# Altium footprint library PCB1.PcbLib: 5 footprints
Each footprint in its own frame and in the unit in brackets; x right, y up, seen from the top. Pads: shape width x height; smd on the part's side, far side on the other; paste and mask are expansions set on the pad; w line width, h text height; cw(c..) or ccw(c..) is an arc to the next point about the centre after c.
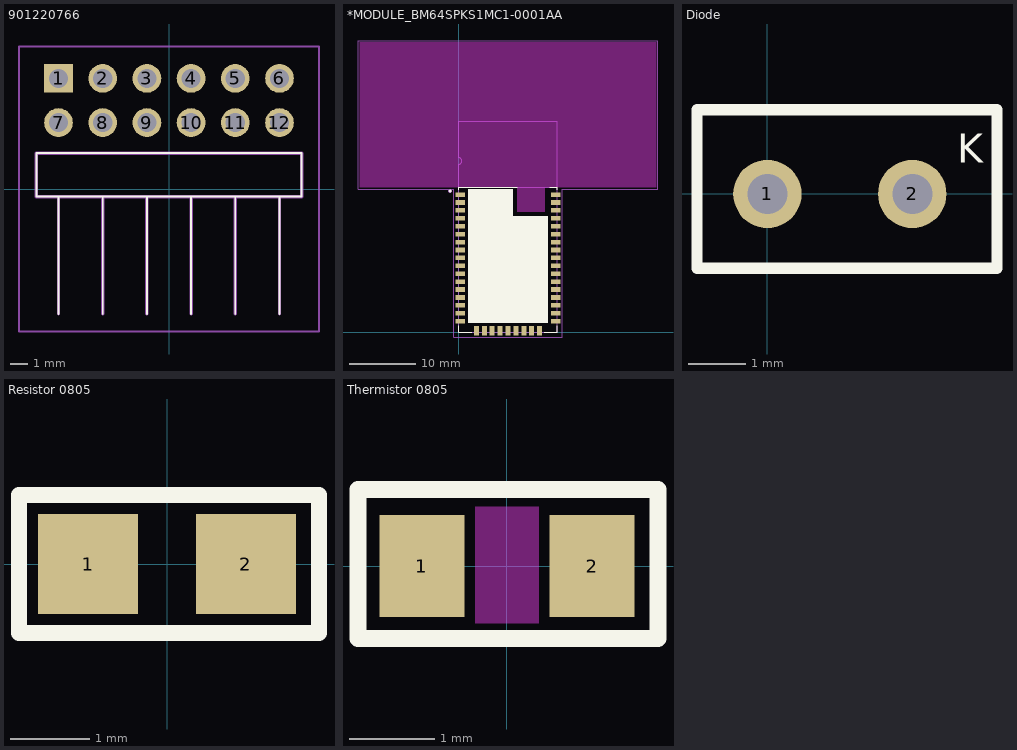
[diagram p0: the footprints below, top view; thin cyan lines are the x and y axes]

## 901220766 [mm]
pads (12):
  rect 1.65x1.65 hole 1.1: 1(-6.35,6.357)
  round 1.65 hole 1.1: 2(-3.81,6.357) 3(-1.27,6.357) 4(1.27,6.357) 5(3.81,6.357) 7(-6.35,3.817) 8(-3.81,3.817) 9(-1.27,3.817) 10(1.27,3.817) 11(3.81,3.817) 12(6.35,3.817)
  round 1.65 / inner round 0 / far side round 1.65 hole 1.1: 6(6.35,6.357)
Top Overlay:
  lines w0.1: -6.35,-7.182 -6.35,-0.433 ; -3.81,-7.182 -3.81,-0.433 ; -1.27,-7.182 -1.27,-0.433 ; 1.27,-7.182 1.27,-0.433 ; 3.81,-7.182 3.81,-0.433 ; 6.35,-7.182 6.35,-0.433 ; -7.62,-0.433 -7.62,2.067 7.62,2.067 7.62,-0.433 -7.62,-0.433
Mechanical 13:
  lines w0.2: -6.35,-7.182 -6.35,-0.433 ; -3.81,-7.182 -3.81,-0.433 ; -1.27,-7.182 -1.27,-0.433 ; 1.27,-7.182 1.27,-0.433 ; 3.81,-7.182 3.81,-0.433 ; 6.35,-7.182 6.35,-0.433 ; -7.62,-0.433 -7.62,2.067 7.62,2.067 7.62,-0.433 -7.62,-0.433
Mechanical 15:
  lines w0.1: -8.62,-8.182 -8.62,8.183 8.62,8.183 8.62,-8.182 -8.62,-8.182
3D body "90122-0766.stp": height 3.08, standoff -5.97, extent -7.62,-7.702 7.62,6.147

## *MODULE_BM64SPKS1MC1-0001AA [mm]
pads (43):
  rect 1.5x0.7 smd: 1(0.25,20.9) 2(0.25,19.7) 3(0.25,18.5) 4(0.25,17.3) 5(0.25,16.1) 6(0.25,14.9) 7(0.25,13.7) 8(0.25,12.5) 9(0.25,11.3) 10(0.25,10.1) 11(0.25,8.9) 12(0.25,7.7) 13(0.25,6.5) 14(0.25,5.3) 15(0.25,4.1) 16(0.25,2.9) 17(0.25,1.7) 27(14.75,1.7) 28(14.75,2.9) 29(14.75,4.1) 30(14.75,5.3) 31(14.75,6.5) 32(14.75,7.7) 33(14.75,8.9) 34(14.75,10.1) 35(14.75,11.3) 36(14.75,12.5) 37(14.75,13.7) 38(14.75,14.9) 39(14.75,16.1) 40(14.75,17.3) 41(14.75,18.5) 42(14.75,19.7) 43(14.75,20.9)
  rect 0.76x1.5 smd: 18(2.7,0.25) 19(3.9,0.25) 20(5.1,0.25) 21(6.3,0.25) 22(7.5,0.25) 23(8.7,0.25) 24(9.9,0.25) 25(11.1,0.25) 26(12.3,0.25)
Top Overlay:
  circle w0.2: c-1.275,21.45 r0.1
  rectangle: 1.397,17.526 8.255,21.717
  rectangle: 1.397,1.397 13.589,17.653
  lines w0.127: 0,1 0,0 2,0 ; 0,21.6 0,22 8.9,22 ; 13,0 15,0 15,1 ; 13.8,22 15,22 15,21.6
Keep-Out Layer:
  region: -15,44 30,44 30,22 12.827,22 12.827,18.288 8.9,18.288 8.9,22 -15,22
  region: -15,44 30,44 30,22 12.827,22 12.827,18.288 8.9,18.288 8.9,22 -15,22
  region: -15,44 30,44 30,22 13.081,22 13.081,18.288 8.9,18.288 8.9,22 -15,22
  region: -15,44 30,44 30,22 13.081,22 13.081,18.288 8.9,18.288 8.9,22 -15,22
  region: -15,44 30,44 30,22 13.081,22 13.081,18.288 8.9,18.288 8.9,22 -15,22
  region: -15,44 30,44 30,22 12.827,22 12.827,18.288 8.9,18.288 8.9,22 -15,22
  region: -15,44 30,44 30,22 13.081,22 13.081,18.288 8.9,18.288 8.9,22 -15,22
  region: -15,44 30,44 30,22 13.081,22 13.081,18.288 9.271,18.288 9.271,22 -15,22
  region: -15,44 30,44 30,22 12.827,22 12.827,18.288 9.271,18.288 9.271,22 -15,22
Mechanical 4:
  circle w0.2: c-1.3,21.45 r0.18
  circle w0.2: c-1.25,21.5 r0.1
  lines w0.127: 0,0 15,0 ; 0,0 0,22 ; 0,0 15,0 ; 0,0 0,22 ; 0,22 15,22 ; 0,22 0,25.5 ; 0,22 15,22 ; 0,22 0,25.5 ; 0,25.5 ccw(c0,26) 0,26.5 ; 0,25.5 ccw(c0,26) 0,26.5 ; 0,26.5 0,32 ; 0,26.5 0,32 ; 0,32 15,32 ; 0,32 15,32 ; 15,0 15,22 ; 15,0 15,22 ; 15,22 15,32 ; 15,22 15,32
Mechanical 16:
  lines w0.05: -15.25,21.75 -0.75,21.75 -0.75,-0.75 15.75,-0.75 15.75,21.75 30.25,21.75 30.25,44.25 -15.25,44.25 -15.25,21.75

## Diode [mm]
pads (2):
  round 1.2 hole 0.7: 1(0,0) 2(2.54,0)
Top Overlay:
  lines w0.2: -1.235,-1.3 -1.235,1.475 4.025,1.475 4.025,-1.3 -1.235,-1.3
  text "K" at 3.325,0.55 h0.51

## Resistor 0805 [mm]
pads (2):
  rect 1.27x1.27 smd: 1(-1,0) 2(1,0)
Top Overlay:
  lines w0.2: -1.875,-0.875 -1.875,0.875 1.925,0.875 1.925,-0.875 -1.875,-0.875

## Thermistor 0805 [mm] "0805"
pads (2):
  rect 1x1.2 smd: 1(-1,0) 2(1,0)
Top Overlay:
  lines w0.2: -1.75,-0.85 1.775,-0.85 1.775,0.9 -1.75,0.9 -1.75,-0.85
Keep-Out Layer:
  rectangle: -0.375,-0.675 0.375,0.7